# Altium footprint library VAR-RELAY-12V10A-CHICO.PcbLib: 1 footprints
Each footprint in its own frame and in the unit in brackets; x right, y up, seen from the top. Pads: shape width x height; smd on the part's side, far side on the other; paste and mask are expansions set on the pad; w line width, h text height; cw(c..) or ccw(c..) is an arc to the next point about the centre after c.
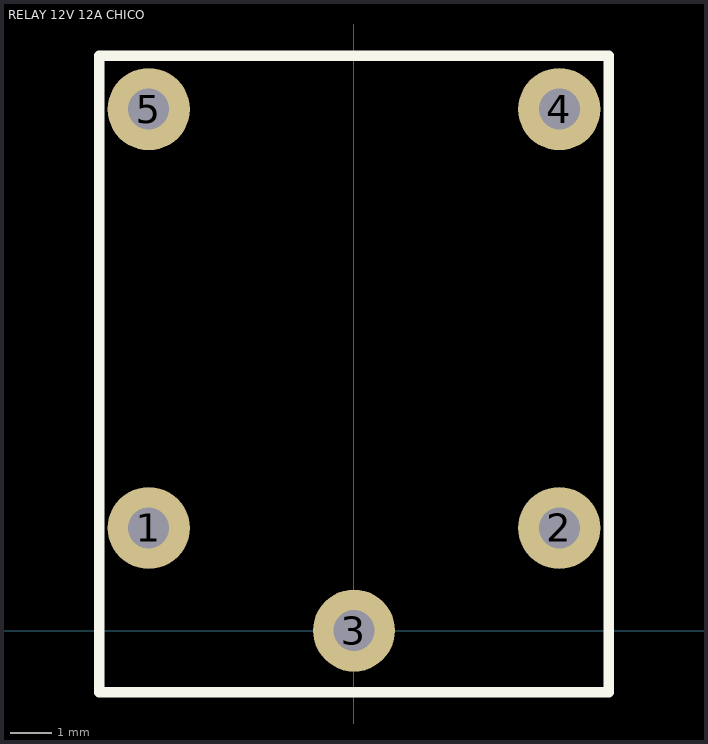
[diagram p0: the footprint, top view; thin cyan lines are the x and y axes]

## RELAY 12V 12A CHICO [mm] "RELAY 12V 12A CHICO"
pads (5):
  round 2 hole 1: 1(-5,2.5) 2(5,2.5) 3(0,0) 4(5,12.7) 5(-5,12.7)
Top Overlay:
  lines w0.254: -6.2,-1.5 -6.2,14 6.2,14 6.2,-1.5 -6.2,-1.5
3D body "VAR-RELAY-12V10A-CHICO.stp": height 13.1, standoff -4, extent -6,-1.3 6,14